# Altium footprint library RES5W.PcbLib: 1 footprints
Each footprint in its own frame and in the unit in brackets; x right, y up, seen from the top. Pads: shape width x height; smd on the part's side, far side on the other; paste and mask are expansions set on the pad; w line width, h text height; cw(c..) or ccw(c..) is an arc to the next point about the centre after c.
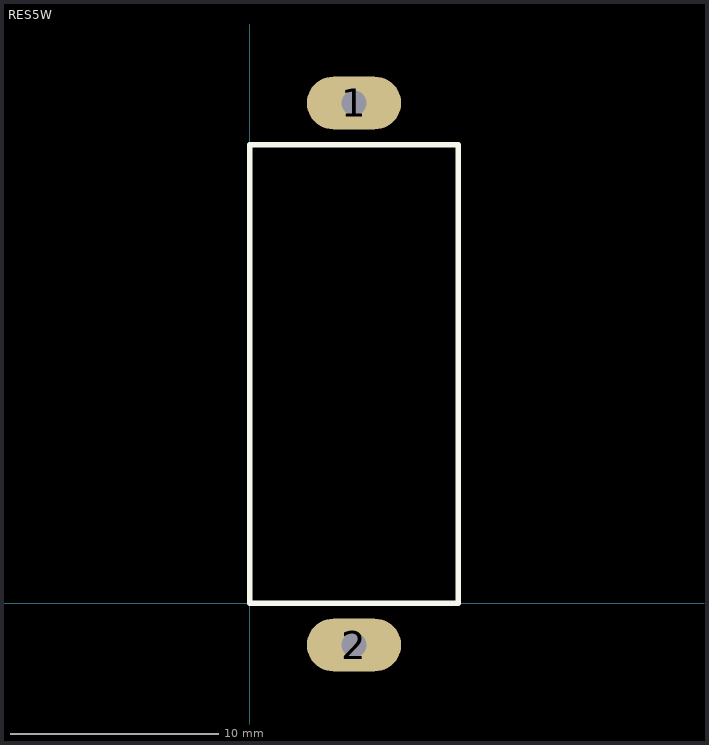
[diagram p0: the footprint, top view; thin cyan lines are the x and y axes]

## RES5W [mm]
pads (2):
  oval 4.524x2.524 hole 1.2: 1(5,24) 2(5,-2)
Top Overlay:
  lines w0.254: 0,0 0,22 10,22 10,0 0,0